# EAGLE library part 74*245 (library gost_micro)
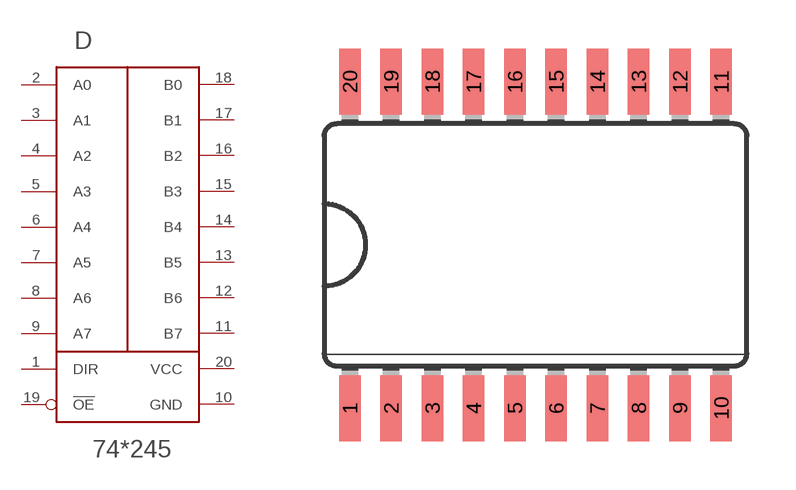
[diagram p20: symbol with the pads of SO20L; footprint SO20L]

Designator prefix D

## 74AC245D, 74HC245D, 74HCT245D  [SO20L]
1  DIR
2  A0
3  A1
4  A2
5  A3
6  A4
7  A5
8  A6
9  A7
10  GND
11  B7
12  B6
13  B5
14  B4
15  B3
16  B2
17  B1
18  B0
19  !OE
20  VCC

## Footprint SO20L (pad centres in mm)
Small Outline Package
smd 0.66 x 2.032: 1 -5.715,-5.029; 2 -4.445,-5.029; 3 -3.175,-5.029; 4 -1.905,-5.029; 5 -0.635,-5.029; 6 0.635,-5.029; 7 1.905,-5.029; 8 3.175,-5.029; 9 4.445,-5.029; 10 5.715,-5.029; 11 5.715,5.029; 12 4.445,5.029; 13 3.175,5.029; 14 1.905,5.029; 15 0.635,5.029; 16 -0.635,5.029; 17 -1.905,5.029; 18 -3.175,5.029; 19 -4.445,5.029; 20 -5.715,5.029